# Altium footprint library Connectors - Barrel - Power.PcbLib: 10 footprints
Each footprint in its own frame and in the unit in brackets; x right, y up, seen from the top. Pads: shape width x height; smd on the part's side, far side on the other; paste and mask are expansions set on the pad; w line width, h text height; cw(c..) or ccw(c..) is an arc to the next point about the centre after c.
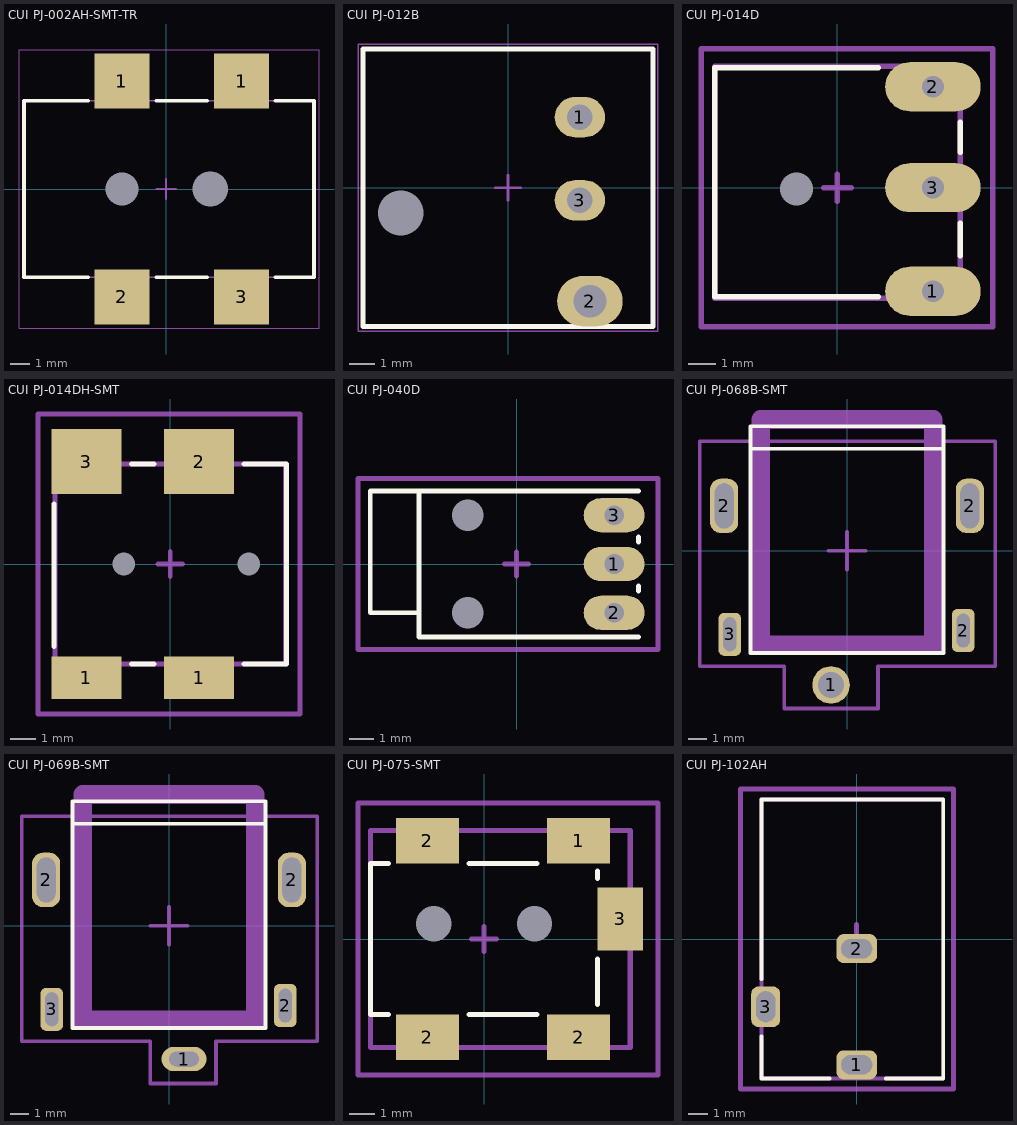
[diagram p0: the footprints below, top view; thin cyan lines are the x and y axes]

## CUI PJ-002AH-SMT-TR [mm]
height 11
pads (6):
  rect 2.8x2.8 smd: 1(-2.25,5.5) 1(3.85,5.5) 2(-2.25,-5.5) 3(3.85,-5.5)
  round 0 hole 1.7 unplated: M(-2.25,0)
  round 0 hole 1.8 unplated: M(2.25,0)
Top Overlay:
  lines w0.2: -3.975,-4.5 -7.25,-4.5 -7.25,4.5 -3.975,4.5 ; -0.5,-4.5 2.1,-4.5 ; -0.5,4.5 2.1,4.5 ; 5.575,-4.5 7.55,-4.5 7.55,4.5 5.575,4.5
Mechanical 13:
  lines w0.1: -7.25,-4.5 7.55,-4.5 7.55,4.5 -7.25,4.5 -7.25,-4.5
Mechanical 15:
  lines w0.05: -7.5,-7.1 -7.5,7.1 7.8,7.1 7.8,-7.1 -7.5,-7.1
  lines w0.1: -0.5,0 0.5,0 ; 0,-0.5 0,0.5
3D body "CUI - PJ-002AH-SMT-TR.step": height 11.4, standoff -1, extent -7.25,-6.3 7.55,6.3

## CUI PJ-012B [mm]
height 7
pads (4):
  oval 2x1.6 hole 1: 1(2.85,2.8) 3(2.85,-0.5)
  oval 2.6x2 hole 1.3: 2(3.25,-4.5)
  round 0 hole 1.8 unplated: M(-4.25,-1)
Top Overlay:
  lines w0.2: -5.75,-5.5 5.75,-5.5 5.75,5.5 -5.75,5.5 -5.75,-5.5
Mechanical 1:
  lines w0.1: -5.75,-5.5 5.75,-5.5 ; -5.75,5.5 5.75,5.5
Mechanical 13:
  lines w0.1: -5.75,-5.5 -5.75,5.5 5.75,5.5 5.75,-5.5 -5.75,-5.5
Mechanical 15:
  lines w0.05: -5.95,-5.7 5.95,-5.7 5.95,5.7 -5.95,5.7 -5.95,-5.7
  lines w0.1: -0.5,0 0.5,0 ; 0,-0.5 0,0.5
3D body "CUI - PJ-012B.step": height 8.3, standoff -2.55, extent -5.75,-5.5 5.85,5.5

## CUI PJ-014D [mm]
height 5.5
pads (4):
  oval 3.5x1.8 hole 0.8 square: 1(3.5,-3.8) 2(3.5,3.7) 3(3.5,0)
  round 0 hole 1.2 unplated: M(-1.5,-0.05)
Top Overlay:
  lines w0.2: 1.5,-4 -4.5,-4 -4.5,4.4 1.5,4.4 ; 4.5,-2.5 4.5,-1.3 ; 4.5,1.3 4.5,2.4
Mechanical 1:
  lines w0.2: -4.5,-4.05 -4.5,4.45 4.5,4.45 4.5,-4.05 -4.5,-4.05
Mechanical 15:
  lines w0.2: -0.5,0 0.5,0 ; 0,-0.5 0,0.5 ; -5,-5.1 -5,5.1 5.7,5.1 5.7,-5.1 -5,-5.1
3D body "CUI PJ-014D.STEP": height 5.5, standoff -3.5, extent -4.5,-4.05 4.5,4.45

## CUI PJ-014DH-SMT [mm]
height 5.7
pads (6):
  rect 2.8x1.7 smd: 1(-3.35,-4.55) 1(1.15,-4.55)
  rect 2.8x2.6 smd: 2(1.15,4.1) 3(-3.35,4.1)
  round 0 hole 0.9 unplated: M(-1.85,0) M(3.15,0)
Top Overlay:
  lines w0.2: -4.65,-3.3 -4.65,2.4 ; -1.55,-4 -0.65,-4 ; -1.55,4 -0.65,4 ; 2.95,-4 4.65,-4 4.65,4 2.95,4
Mechanical 1:
  lines w0.2: -4.6,-4 -4.6,4 4.6,4 4.6,-4 -4.6,-4
Mechanical 15:
  lines w0.2: -0.5,0 0.5,0 ; 0,-0.5 0,0.5 ; -5.3,-6 5.2,-6 5.2,6 -5.3,6 -5.3,-6
3D body "CUI PJ-014DH-SMT.STEP": height 5.4, standoff -0.6, extent -4.65,-4.8 4.65,4.8

## CUI PJ-040D [mm]
height 5
pads (5):
  oval 2.5x1.4 hole 0.8 square: 1(4,0) 2(4,-2) 3(4,2)
  round 0 hole 1.3 unplated: M(-2,-2) M(-2,2)
Top Overlay:
  lines w0.2: -4,3 -4,-2 ; 5,-3 -4,-3 -4,-2 ; 5,-1.1 5,-0.9 ; 5,0.9 5,1.1 ; 5,3 -6,3 -6,-2 -4,-2
Mechanical 15:
  lines w0.2: -0.5,0 0.5,0 ; 0,-0.5 0,0.5 ; -6.5,-3.5 -6.5,3.5 5.8,3.5 5.8,-3.5 -6.5,-3.5
3D body "CUI pj-040d.STEP": height 5, standoff -3, extent -6,-3 5,3

## CUI PJ-068B-SMT [mm] "Mid Mount DC Power Jack"
height 5.45
pads (5):
  round 2 hole 1.4 unplated: 1(-0.85,-7.15)
  rrect75% 1.5x2.9 hole 1 slot 2.4 at 90 deg unplated: 2(-6.55,2.4) 2(6.55,2.4)
  rrect50% 1.2x2.3 hole 0.7 slot 1.8 at 90 deg unplated: 2(6.2,-4.25) 3(-6.25,-4.45)
Top Overlay:
  lines w0.2: -5.15,5.45 -0.85,5.45 5.15,5.45 ; -5.15,5.45 -5.15,-5.45 5.15,-5.45 5.15,5.45 ; -5.15,5.45 -5.15,6.65 5.15,6.65 5.15,5.45
Mechanical 15:
  lines w0.2: -1,0 1,0 ; 0,-1 0,1 ; -7.85,-6.15 -3.35,-6.15 -3.35,-8.4 -0.85,-8.4 1.65,-8.4 1.65,-6.15 7.9,-6.15 7.9,5.85 -7.85,5.85 -7.85,-6.15
Mechanical 31:
  lines w0.6: -4.8,-4.5 -4.8,-5.2 -4,-5.2 ; 4,-5.2 4.8,-5.2 4.8,-4.5
  lines w1: -4.6,-5 4.6,-5 4.6,7 -4.6,7 -4.6,-5
3D body "pj-068b-smt.STEP": height 5.45, standoff -3.65, extent -6.55,-7.7 6.55,6.6

## CUI PJ-069B-SMT [mm] "Mid Mount DC Power Jack"
height 2.45
pads (5):
  oval 2.4x1.3 hole 0.8 slot 1.6 at 0 deg unplated: 1(0.8,-7.1)
  rrect75% 1.5x2.9 hole 1 slot 2.4 at 90 deg unplated: 2(-6.55,2.45) 2(6.55,2.45)
  rrect50% 1.2x2.3 hole 0.7 slot 1.8 at 90 deg unplated: 2(6.2,-4.25) 3(-6.25,-4.45)
Top Overlay:
  lines w0.2: -5.15,5.45 -0.85,5.45 5.15,5.45 ; -5.15,5.45 -5.15,-5.45 5.15,-5.45 5.15,5.45 ; -5.15,5.45 -5.15,6.65 5.15,6.65 5.15,5.45
Mechanical 15:
  lines w0.2: -1,0 1,0 ; 0,-1 0,1 ; -7.85,-6.15 -1,-6.15 -1,-8.4 -0.85,-8.4 2.5,-8.4 2.5,-6.15 7.9,-6.15 7.9,5.85 -7.85,5.85 -7.85,-6.15
Mechanical 31:
  lines w0.6: -4.8,-4.5 -4.8,-5.2 -4,-5.2 ; 4,-5.2 4.8,-5.2 4.8,-4.5
  lines w1: -4.6,-5 4.6,-5 4.6,7 -4.6,7 -4.6,-5
3D body "PJ-069B-SMT.STEP": height 2.55, standoff -6.45, extent -6.55,-7.35 6.55,6.6

## CUI PJ-075-SMT [mm]
height 4.8
pads (7):
  rect 2.5x1.8 smd: 1(3.75,3.9) 2(-2.25,-3.9) 2(-2.25,3.9) 2(3.75,-3.9)
  rect 1.8x2.5 smd: 3(5.4,0.8)
  round 0 hole 1.4 unplated: M(-2,0.6) M(2,0.6)
Top Overlay:
  lines w0.2: -3.8,-3 -4.5,-3 -4.5,3 -3.8,3 ; -0.6,-3 2.1,-3 ; -0.6,3 2.1,3 ; 4.5,-2.6 4.5,-0.8 ; 4.5,2.4 4.5,2.7
Mechanical 1:
  lines w0.2: -4.5,-4.3 -4.5,4.3 5.8,4.3 5.8,-4.3 -4.5,-4.3
Mechanical 31:
  lines w0.2: -0.5,0 0.5,0 ; 0,-0.5 0,0.5 ; -5,-5.4 6.9,-5.4 6.9,5.4 -5,5.4 -5,-5.4
3D body "CUI PJ-075DH-SMT.STEP": height 4.8, standoff -0.4, extent -4.5,-4.3 5.8,4.3

## CUI PJ-102AH [mm] "DC Barrel Jack W/ Switch 2.0x5.5"
height 11
pads (3):
  rrect50% 2.1x1.5 hole 1 slot 1.6 at 0 deg: 1(0,-6.5) 2(0,-0.5)
  rrect50% 1.5x2.1 hole 1 slot 1.6 at 90 deg: 3(-4.7,-3.5)
Top Overlay:
  lines w0.2: -4.925,-5.025 -4.925,-7.2 -1.4,-7.2 ; -4.925,-2.075 -4.925,7.2 4.475,7.2 4.475,-6.525 4.475,-7.2 1.5,-7.2
Mechanical 1:
  lines w0.2: -4.925,-7.2 4.475,-7.2 4.475,7.2 -4.925,7.2 -4.925,-7.2
Mechanical 15:
  lines w0.254: -0.75,0 0,0 ; 0,-0.75 0,0 ; 0,0.75 0,0 ; 0.75,0 0,0 ; -6,-7.75 5,-7.75 5,7.75 -6,7.75 -6,-3.5 -6,-7.75
3D body "CUI-PJ-102AH.step": height 11, standoff -3.5, extent -4.925,-7.2 4.475,7.2

## PCBComponent_1 [mm]